# Altium footprint library 2.54 _DC3_20_vertical.PcbLib: 1 footprints
Each footprint in its own frame and in the unit in brackets; x right, y up, seen from the top. Pads: shape width x height; smd on the part's side, far side on the other; paste and mask are expansions set on the pad; w line width, h text height; cw(c..) or ccw(c..) is an arc to the next point about the centre after c.

## PCBComponent_1 [mm]
3D body "0702462001.x_t": height 9.55, standoff -3.14, extent -16.51,-4.445 16.51,4.445